# Altium schematic symbol library RELAY.Schlib: 1 symbol
Pins are listed as number, name and electrical type; pins without a type are passive.

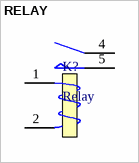
[diagram p0: symbol RELAY]

## RELAY
designator K?, comment Relay
Relay_NO; Designer: Ali Hafizi; Company: E.P.I.L; Design_Date: 2011/10/31
footprint Relay T
footprint Relay HF7FD (16A Relay)
footprint Relay_mini_MPR-S-112-A (5A mini relay)
footprint RELAY HIGH POWER (NO) (MINIATURE HIGH POWER RELAY)
pins: 1 T1, 2 T2, 4 COM, 5 NO